# Altium schematic symbol library 2014-04-10_10-38-29.SchLib: 2 symbols
Pins are listed as number, name and electrical type; pins without a type are passive.

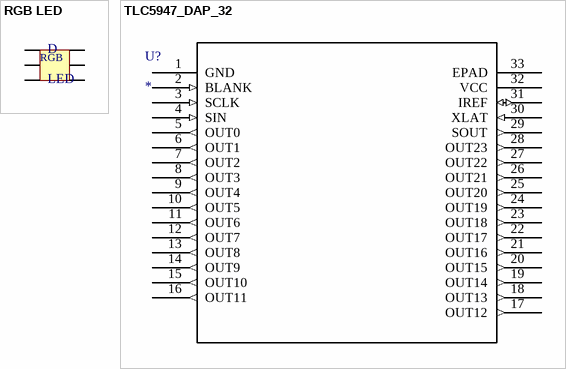
[diagram p0: symbols RGB LED to TLC5947_DAP_32]

## RGB LED
designator D, comment LED
footprint LED-TRICOLOR-5050
pins: 1 CB, 2 CR, 3 CG, 4 AB, 5 AR, 6 AG
text: RGB

## TLC5947_DAP_32
designator U?
Imported; Manufacturer_Part_Number: tlc5947_dap_32; GENERIC_PART_NUMBER: TLC5947; Vendor: Texas Instruments; PACKAGE_DESIGNATOR: DAP; PIN_COUNT: 32; FAMILY_NAME: LED DRIVER; INDUSTRY_STD_PKG_TYPE: HTSSOP; Datasheet URL: http://www.ti.com/lit/gpn/TLC5947; Manufacturer: Texas Instruments; RefDes: RefDes; Type: DEV; Value: Value
footprint DAP32_4P36X4P11
pins: 1 GND (power), 2 BLANK (in), 3 SCLK (in), 4 SIN (in), 5 OUT0 (out), 6 OUT1 (out), 7 OUT2 (out), 8 OUT3 (out), 9 OUT4 (out), 10 OUT5 (out), 11 OUT6 (out), 12 OUT7 (out), 13 OUT8 (out), 14 OUT9 (out), 15 OUT10 (out), 16 OUT11 (out), 17 OUT12 (out), 18 OUT13 (out), 19 OUT14 (out), 20 OUT15 (out), 21 OUT16 (out), 22 OUT17 (out), 23 OUT18 (out), 24 OUT19 (out), 25 OUT20 (out), 26 OUT21 (out), 27 OUT22 (out), 28 OUT23 (out), 29 SOUT (out), 30 XLAT (in), 31 IREF (io), 32 VCC (power), 33 EPAD